# EAGLE library part ATSAM*-? (library Microchip)
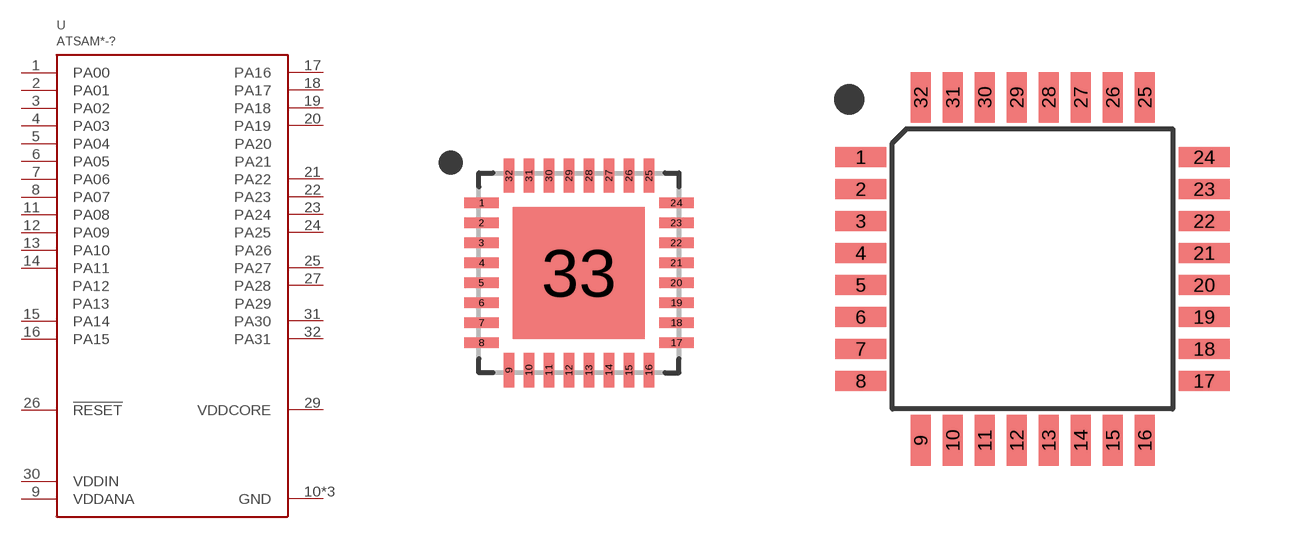
[diagram p60: symbol with the pads of QFN32; footprints QFN32, TQFP32]

Designator prefix U

## ATSAMC20E15A-M, ATSAMC20E16A-M, ATSAMC20E17A-M, ATSAMC20E18A-M, ATSAMC21E15A-M, ATSAMC21E16A-M, ATSAMC21E17A-M, ATSAMC21E18A-M, ATSAMD20E15A-M, ATSAMD20E16A-M, ATSAMD20E17A-M, ATSAMD20E18A-M, ATSAMD21E15A-M, ATSAMD21E16A-M, ATSAMD21E17A-M, ATSAMD21E18A-M  [QFN32]
1  PA00
2  PA01
3  PA02
4  PA03
5  PA04
6  PA05
7  PA06
8  PA07
9  VDDANA
10  GND
11  PA08
12  PA09
13  PA10
14  PA11
15  PA14
16  PA15
17  PA16
18  PA17
19  PA18
20  PA19
21  PA22
22  PA23
23  PA24
24  PA25
25  PA27
26  !RESET
27  PA28
28  GND
29  VDDCORE
30  VDDIN
31  PA30
32  PA31
33  GND

## ATSAMC20E15A-A, ATSAMC20E16A-A, ATSAMC20E17A-A, ATSAMC20E18A-A, ATSAMC21E15A-A, ATSAMC21E16A-A, ATSAMC21E17A-A, ATSAMC21E18A-A, ATSAMD20E15A-A, ATSAMD20E16A-A, ATSAMD20E17A-A, ATSAMD20E18A-A, ATSAMD21E15A-A, ATSAMD21E16A-A, ATSAMD21E17A-A, ATSAMD21E18A-A  [TQFP32]
1  PA00
2  PA01
3  PA02
4  PA03
5  PA04
6  PA05
7  PA06
8  PA07
9  VDDANA
10  GND
11  PA08
12  PA09
13  PA10
14  PA11
15  PA14
16  PA15
17  PA16
18  PA17
19  PA18
20  PA19
21  PA22
22  PA23
23  PA24
24  PA25
25  PA27
26  !RESET
27  PA28
28  GND
29  VDDCORE
30  VDDIN
31  PA30
32  PA31

## Footprint QFN32 (pad centres in mm)
smd 0.86 x 0.26: 1 -2.435,1.75; 2 -2.435,1.25; 3 -2.435,0.75; 4 -2.435,0.25; 5 -2.435,-0.25; 6 -2.435,-0.75; 7 -2.435,-1.25; 8 -2.435,-1.75; 17 2.435,-1.75; 18 2.435,-1.25; 19 2.435,-0.75; 20 2.435,-0.25; 21 2.435,0.25; 22 2.435,0.75; 23 2.435,1.25; 24 2.435,1.75
smd 0.26 x 0.86: 9 -1.75,-2.435; 10 -1.25,-2.435; 11 -0.75,-2.435; 12 -0.25,-2.435; 13 0.25,-2.435; 14 0.75,-2.435; 15 1.25,-2.435; 16 1.75,-2.435; 25 1.75,2.435; 26 1.25,2.435; 27 0.75,2.435; 28 0.25,2.435; 29 -0.25,2.435; 30 -0.75,2.435; 31 -1.25,2.435; 32 -1.75,2.435
smd 3.3 x 3.3: 33 0,0

## Footprint TQFP32 (pad centres in mm)
smd 1.27 x 0.5: 1 -4.293,2.8; 2 -4.293,2; 3 -4.293,1.2; 4 -4.293,0.4; 5 -4.293,-0.4; 6 -4.293,-1.2; 7 -4.293,-2; 8 -4.293,-2.8; 17 4.293,-2.8; 18 4.293,-2; 19 4.293,-1.2; 20 4.293,-0.4; 21 4.293,0.4; 22 4.293,1.2; 23 4.293,2; 24 4.293,2.8
smd 0.5 x 1.27: 9 -2.8,-4.293; 10 -2,-4.293; 11 -1.2,-4.293; 12 -0.4,-4.293; 13 0.4,-4.293; 14 1.2,-4.293; 15 2,-4.293; 16 2.8,-4.293; 25 2.8,4.293; 26 2,4.293; 27 1.2,4.293; 28 0.4,4.293; 29 -0.4,4.293; 30 -1.2,4.293; 31 -2,4.293; 32 -2.8,4.293